# Altium integrated library Jumper.IntLib: 3 symbols
Pins are listed as number, name and electrical type; pins without a type are passive.

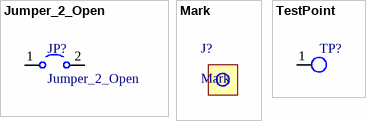
[diagram p0: symbols Jumper_2_Open to TestPoint]

## Jumper_2_Open
designator JP?
Jumper, 2-pole, open
footprint SolderJumper-2_P1.3mm_Open_RoundedPad1.0x1.5mm
pins: 1, 2

## Mark
designator J?
footprint MARK_1mm

## TestPoint
designator TP?  (value not drawn)
footprint TESPPOINT_ROUND_1MM
pins: 1